# Altium schematic symbol library pcie_power.SchLib: 1 symbol
Pins are listed as number, name and electrical type; pins without a type are passive.

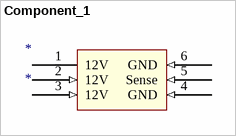
[diagram p0: symbol Component_1]

## Component_1
designator *
footprint PCBComponent_1
pins: 1 12V (power), 2 12V (in), 3 12V (in), 4 GND (in), 5 Sense (in), 6 GND (in)